# EAGLE library part AD9237 (library .my_elements)
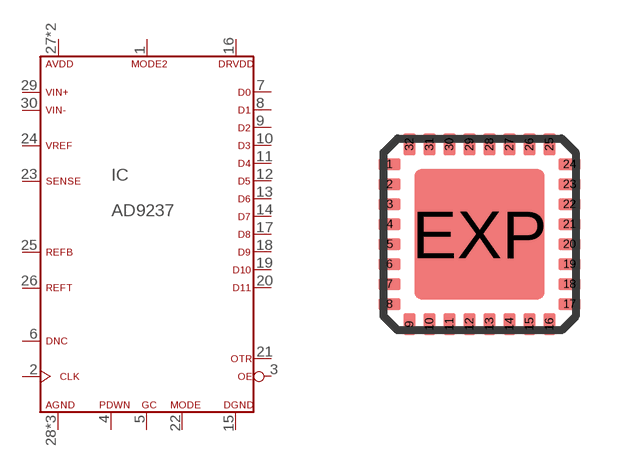
[diagram p1: symbol with the pads of LFCSP32; footprint LFCSP32]

Designator prefix IC

## AD9237BCPZ  [LFCSP32]
1  MODE2  in
2  CLK  in
3  OE  in
4  PDWN  in
5  GC  in
6  DNC  nc
7  D0  out
8  D1  out
9  D2  out
10  D3  out
11  D4  out
12  D5  out
13  D6  out
14  D7  out
15  DGND  pwr
16  DRVDD  pwr
17  D8  out
18  D9  out
19  D10  out
20  D11  out
21  OTR  out
22  MODE  in
23  SENSE  in
24  VREF  out
25  REFB  out
26  REFT  out
27  AVDD  pwr
28  AGND  pwr
29  VIN+  in
30  VIN-  in
31  AGND  pwr
32  AVDD  pwr
EXP  AGND  pwr

## Footprint LFCSP32 (pad centres in mm)
32-Lead Frame Chip Scale Package [LFCSP_VQ] 5 mm × 5 mm Very Thin Quad (CP-32-3 COMPLIANT TO JEDEC STANDARDS MO-220-VHHD-2 Source: http://www.analog.com/UploadedFiles/Data_Sheets/762180021AD7142_42_1_prd.pdf
smd 0.55 x 0.3: 1 -2.25,1.75; 2 -2.25,1.25; 3 -2.25,0.75; 4 -2.25,0.25; 5 -2.25,-0.25; 6 -2.25,-0.75; 7 -2.25,-1.25; 8 -2.25,-1.75; 17 2.25,-1.75; 18 2.25,-1.25; 19 2.25,-0.75; 20 2.25,-0.25; 21 2.25,0.25; 22 2.25,0.75; 23 2.25,1.25; 24 2.25,1.75
smd 0.3 x 0.55: 9 -1.75,-2.25; 10 -1.25,-2.25; 11 -0.75,-2.25; 12 -0.25,-2.25; 13 0.25,-2.25; 14 0.75,-2.25; 15 1.25,-2.25; 16 1.75,-2.25; 25 1.75,2.25; 26 1.25,2.25; 27 0.75,2.25; 28 0.25,2.25; 29 -0.25,2.25; 30 -0.75,2.25; 31 -1.25,2.25; 32 -1.75,2.25
smd 3.25 x 3.25: EXP 0,0